# Altium schematic symbol library SCH - MCU - STM32 - ST MICROELECTRONICS STM32F051T8YX WLCSP36.SchLib: 1 symbol
Pins are listed as number, name and electrical type; pins without a type are passive.

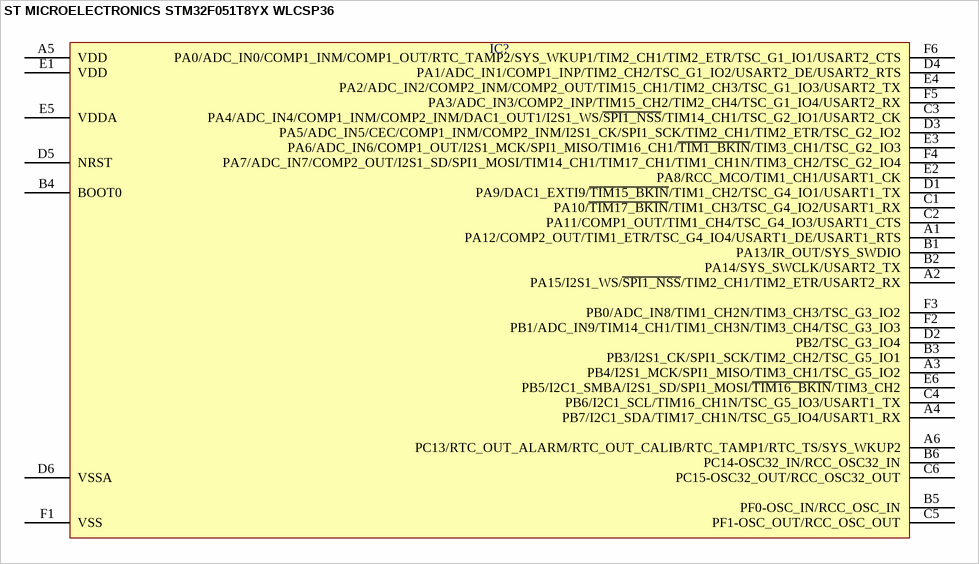
[diagram p0: symbol ST MICROELECTRONICS STM32F051T8YX WLCSP36]

## ST MICROELECTRONICS STM32F051T8YX WLCSP36
designator IC?  (value not drawn)
pins: A1 PA12/COMP2_OUT/TIM1_ETR/TSC_G4_IO4/USART1_DE/USART1_RTS, A2 PA15/I2S1_WS/~{SPI1_NSS}/TIM2_CH1/TIM2_ETR/USART2_RX, A3 PB4/I2S1_MCK/SPI1_MISO/TIM3_CH1/TSC_G5_IO2, A4 PB7/I2C1_SDA/TIM17_CH1N/TSC_G5_IO4/USART1_RX, A5 VDD, A6 PC13/RTC_OUT_ALARM/RTC_OUT_CALIB/RTC_TAMP1/RTC_TS/SYS_WKUP2, B1 PA13/IR_OUT/SYS_SWDIO, B2 PA14/SYS_SWCLK/USART2_TX, B3 PB3/I2S1_CK/SPI1_SCK/TIM2_CH2/TSC_G5_IO1, B4 BOOT0, B5 PF0-OSC_IN/RCC_OSC_IN, B6 PC14-OSC32_IN/RCC_OSC32_IN, C1 PA10/~{TIM17_BKIN}/TIM1_CH3/TSC_G4_IO2/USART1_RX, C2 PA11/COMP1_OUT/TIM1_CH4/TSC_G4_IO3/USART1_CTS, C3 PA4/ADC_IN4/COMP1_INM/COMP2_INM/DAC1_OUT1/I2S1_WS/~{SPI1_NSS}/TIM14_CH1/TSC_G2_IO1/USART2_CK, C4 PB6/I2C1_SCL/TIM16_CH1N/TSC_G5_IO3/USART1_TX, C5 PF1-OSC_OUT/RCC_OSC_OUT, C6 PC15-OSC32_OUT/RCC_OSC32_OUT, D1 PA9/DAC1_EXTI9/~{TIM15_BKIN}/TIM1_CH2/TSC_G4_IO1/USART1_TX, D2 PB2/TSC_G3_IO4, D3 PA5/ADC_IN5/CEC/COMP1_INM/COMP2_INM/I2S1_CK/SPI1_SCK/TIM2_CH1/TIM2_ETR/TSC_G2_IO2, D4 PA1/ADC_IN1/COMP1_INP/TIM2_CH2/TSC_G1_IO2/USART2_DE/USART2_RTS, D5 NRST, D6 VSSA, E1 VDD, E2 PA8/RCC_MCO/TIM1_CH1/USART1_CK, E3 PA6/ADC_IN6/COMP1_OUT/I2S1_MCK/SPI1_MISO/TIM16_CH1/~{TIM1_BKIN}/TIM3_CH1/TSC_G2_IO3, E4 PA2/ADC_IN2/COMP2_INM/COMP2_OUT/TIM15_CH1/TIM2_CH3/TSC_G1_IO3/USART2_TX, E5 VDDA, E6 PB5/I2C1_SMBA/I2S1_SD/SPI1_MOSI/~{TIM16_BKIN}/TIM3_CH2, F1 VSS, F2 PB1/ADC_IN9/TIM14_CH1/TIM1_CH3N/TIM3_CH4/TSC_G3_IO3, F3 PB0/ADC_IN8/TIM1_CH2N/TIM3_CH3/TSC_G3_IO2, F4 PA7/ADC_IN7/COMP2_OUT/I2S1_SD/SPI1_MOSI/TIM14_CH1/TIM17_CH1/TIM1_CH1N/TIM3_CH2/TSC_G2_IO4, F5 PA3/ADC_IN3/COMP2_INP/TIM15_CH2/TIM2_CH4/TSC_G1_IO4/USART2_RX, F6 PA0/ADC_IN0/COMP1_INM/COMP1_OUT/RTC_TAMP2/SYS_WKUP1/TIM2_CH1/TIM2_ETR/TSC_G1_IO1/USART2_CTS